# EAGLE library part 2N7002DW (library _mtvl.transistors)
DUAL N-CHANNEL ENHANCEMENT MODE MOSFET
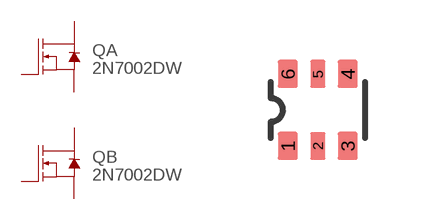
[diagram p9: symbol with the pads of SOT363; footprint SOT363]

Designator prefix Q; gates A=NMOS B=NMOS

## 2N7002DW  [SOT363]
1  B:S
2  B:G
3  A:D
4  A:S
5  A:G
6  B:D

## Footprint SOT363 (pad centres in mm)
smd 0.5 x 0.7: 1 -0.75,-0.9; 3 0.75,-0.9; 4 0.75,0.9; 6 -0.75,0.9
smd 0.38 x 0.7: 2 0,-0.9; 5 0,0.9